# EAGLE library part FIFO_CAMERA (library library)
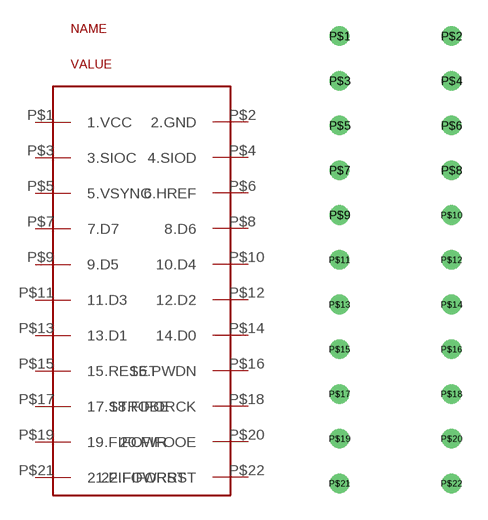
[diagram p8: symbol with the pads of FIFO_CAMERA; footprint FIFO_CAMERA]

Designator prefix -

## FIFO_CAMERAASD  [FIFO_CAMERA]
P$1  1.VCC
P$2  2.GND
P$3  3.SIOC
P$4  4.SIOD
P$5  5.VSYNC
P$6  6.HREF
P$7  7.D7
P$8  8.D6
P$9  9.D5
P$10  10.D4
P$11  11.D3
P$12  12.D2
P$13  13.D1
P$14  14.D0
P$15  15.RESET
P$16  16.PWDN
P$17  17.STROBE
P$18  18.FIFORCK
P$19  19.FIFOWR
P$20  20.FIFOOE
P$21  21.FIFOWRST
P$22  22.FIFORRST

## Footprint FIFO_CAMERA (pad centres in mm)
drill 0.6: P$1 -3.81,10.16; P$2 2.54,10.16; P$3 -3.81,7.62; P$4 2.54,7.62; P$5 -3.81,5.08; P$6 2.54,5.08; P$7 -3.81,2.54; P$8 2.54,2.54; P$9 -3.81,0; P$10 2.54,0; P$11 -3.81,-2.54; P$12 2.54,-2.54; P$13 -3.81,-5.08; P$14 2.54,-5.08; P$15 -3.81,-7.62; P$16 2.54,-7.62; P$17 -3.81,-10.16; P$18 2.54,-10.16; P$19 -3.81,-12.7; P$20 2.54,-12.7; P$21 -3.81,-15.24; P$22 2.54,-15.24